# Altium schematic symbol library SX1508BIULTRT.Schlib: 1 symbol
Pins are listed as number, name and electrical type; pins without a type are passive.

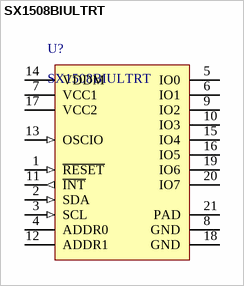
[diagram p0: symbol SX1508BIULTRT]

## SX1508BIULTRT
designator U?
I/O Expander 8 I²C 400 kHz 20-QFN-UT (3x3)
pins: 1 ~{RESET} (in), 2 SDA (in), 3 SCL (in), 4 ADDR0, 5 IO0, 6 IO1, 7 VCC1, 8 GND, 9 IO2, 10 IO3, 11 ~{INT} (out), 12 ADDR1, 13 OSCIO (in), 14 VDDM, 15 IO4, 16 IO5, 17 VCC2, 18 GND, 19 IO6, 20 IO7, 21 PAD